# Altium schematic symbol library PCF8575DB.SchLib: 1 symbol
Pins are listed as number, name and electrical type; pins without a type are passive.

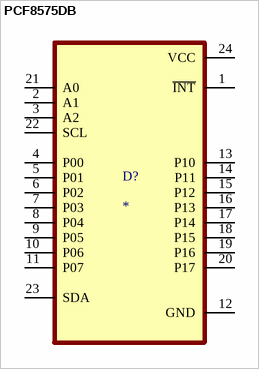
[diagram p0: symbol PCF8575DB]

## PCF8575DB
designator D?
16-bit 2.5- to 5.5-V I2C/SMBus I/O expander with interrupt; MF: Texas Instruments; MP: PCF8575PW; SnapEDA_Link: https://www.snapeda.com/parts/PCF8575PW/Texas+Instruments/view-part/?ref=snap; Package: TSSOP-24 Texas Instruments; Value: *; Check_prices: https://www.snapeda.com/parts/PCF8575PW/Texas+Instruments/view-part/?ref=eda
footprint PCF8575DB
pins: 1 ~{INT}, 2 A1, 3 A2, 4 P00, 5 P01, 6 P02, 7 P03, 8 P04, 9 P05, 10 P06, 11 P07, 12 GND (power), 13 P10, 14 P11, 15 P12, 16 P13, 17 P14, 18 P15, 19 P16, 20 P17, 21 A0, 22 SCL, 23 SDA, 24 VCC (power)